# Altium integrated library Linear Technology Comparators.IntLib: 630 symbols (part 19 of 24)
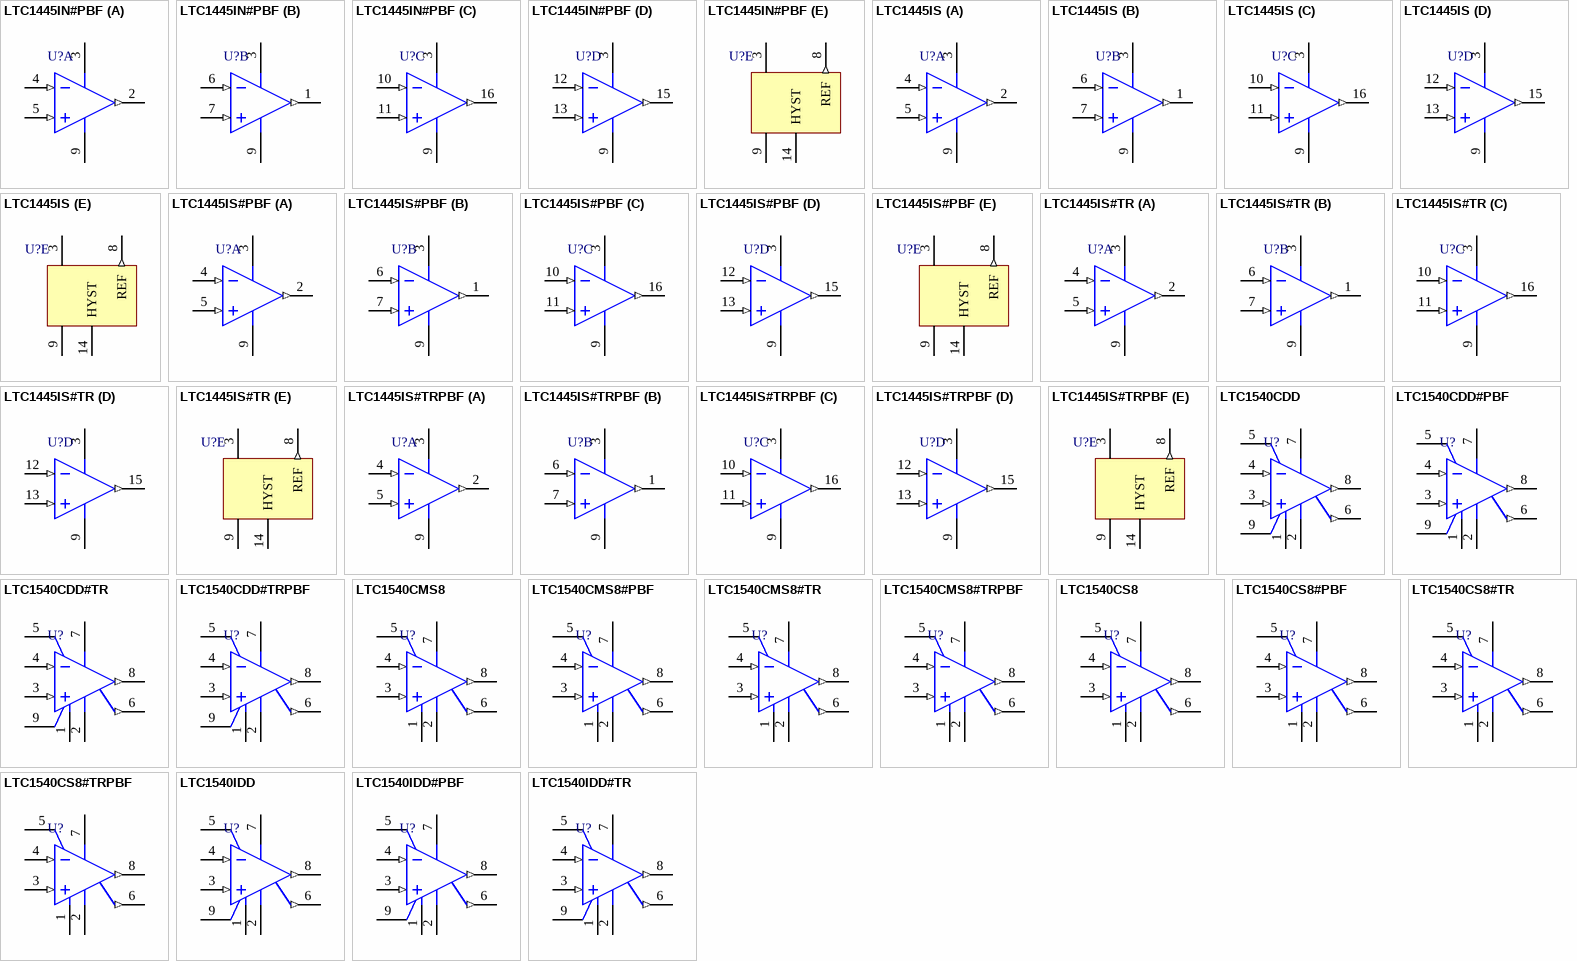
[diagram p42: symbols LTC1445IN#PBF to LTC1540IDD#TR]

## LTC1445IS#TR
designator U?
Ultralow Power Comparator with Reference, 4 Channels, 2 to 11 V, -40 to +85 degC, 16-pin SOP (S16), Tape and Reel; Generic Part Number: LTC1445; Manufacturer: Linear Technology; PartNumber: LTC1445IS#TR; Channels (#): 4; Supply Current (uA) Guaranteed: 8.5; Supply Current (uA) Typical: 5.5; Supply Voltage Range: 2 to 11 V; Vos (mV) Typical: 3; Vs Max (V): 11; Vs Min (V): 2; DatasheetVersion: Rev E; PackageReference: S16; PackageDescription: 16-Pin Plastic Small Outline, Body 9.91 x 3.9 mm, Pitch 1.27 mm; Supplier 1: Digi-Key; Supplier Part Number 1: LTC1445IS#TR-ND; Supplier 2: Newark; Supplier Part Number 2: 56M1279; Features: Reference, Comparator; Prop Delay (us): 4; RoHS: N; Mounting Technology: Surface Mount; ComponentLink1Description: Manufacturer URL; ComponentLink1URL: http://www.linear.com/; ComponentLink2Description: Datasheet; ComponentLink2URL: http://cds.linear.com/docs/en/datasheet/144345fe.pdf; ComponentLink3Description: Package Specification; ComponentLink3URL: http://cds.linear.com/docs/en/packaging/05081610_G_S14.pdf
footprint LT-S16_N (SOIC, 16-Leads, Body 9.9x3.9mm, Pitch 1.27mm, IPC Medium Density)
footprint LT-S16_L (SOIC, 16-Leads, Body 9.9x3.9mm, Pitch 1.27mm, IPC High Density)
footprint LT-S16_M (SOIC, 16-Leads, Body 9.9x3.9mm, Pitch 1.27mm, IPC Low Density)
pins on every part: 3 V+ (power), 9 V- (power)
part A pins: 2 OUTA (out), 4 INA- (in), 5 INA+ (in)
part B pins: 1 OUTB (out), 6 INB- (in), 7 INB+ (in)
part C pins: 10 INC- (in), 11 INC+ (in), 16 OUTC (out)
part D pins: 12 IND- (in), 13 IND+ (in), 15 OUTD (out)
part E pins: 8 REF (out), 14 HYST

## LTC1445IS#TRPBF
designator U?
Ultralow Power Comparator with Reference, 4 Channels, 2 to 11 V, -40 to +85 degC, 16-pin SOP (S16), Tape and Reel; Generic Part Number: LTC1445; Manufacturer: Linear Technology; PartNumber: LTC1445IS#TRPBF; Channels (#): 4; Supply Current (uA) Guaranteed: 8.5; Supply Current (uA) Typical: 5.5; Supply Voltage Range: 2 to 11 V; Vos (mV) Typical: 3; Vs Max (V): 11; Vs Min (V): 2; DatasheetVersion: Rev E; PackageReference: S16; PackageDescription: 16-Pin Plastic Small Outline, Body 9.91 x 3.9 mm, Pitch 1.27 mm; Supplier 1: Digi-Key; Supplier Part Number 1: LTC1445IS#TRPBF-ND; Supplier 2: Newark; Supplier Part Number 2: 78T2496; Features: Reference, Comparator; Prop Delay (us): 4; RoHS: Y; Mounting Technology: Surface Mount; ComponentLink1Description: Manufacturer URL; ComponentLink1URL: http://www.linear.com/; ComponentLink2Description: Datasheet; ComponentLink2URL: http://cds.linear.com/docs/en/datasheet/144345fe.pdf; ComponentLink3Description: Package Specification; ComponentLink3URL: http://cds.linear.com/docs/en/packaging/05081610_G_S14.pdf
footprint LT-S16_N (SOIC, 16-Leads, Body 9.9x3.9mm, Pitch 1.27mm, IPC Medium Density)
footprint LT-S16_L (SOIC, 16-Leads, Body 9.9x3.9mm, Pitch 1.27mm, IPC High Density)
footprint LT-S16_M (SOIC, 16-Leads, Body 9.9x3.9mm, Pitch 1.27mm, IPC Low Density)
pins on every part: 3 V+ (power), 9 V- (power)
part A pins: 2 OUTA (out), 4 INA- (in), 5 INA+ (in)
part B pins: 1 OUTB (out), 6 INB- (in), 7 INB+ (in)
part C pins: 10 INC- (in), 11 INC+ (in), 16 OUTC (out)
part D pins: 12 IND- (in), 13 IND+ (in), 15 OUTD (out)
part E pins: 8 REF (out), 14 HYST

## LTC1540CDD
designator U?
Nanopower Comparator with Reference, 1 Channel, 2 to 11 V, 0 to +70 degC, 8-pin Plastic DFN (DD8); Generic Part Number: LTC1540; Manufacturer: Linear Technology; PartNumber: LTC1540CDD; Channels (#): 1; Prop Delay (us): 50; Supply Current (uA) Guaranteed: 0.68; Supply Current (uA) Typical: 0.3; Supply Voltage Range: 2 to 11 V; Vos (mV) Guaranteed: 12; Vs Max (V): 11; Vs Min (V): 2; DatasheetVersion: Rev A; PackageReference: DD8; PackageDescription: 8-Pin Plastic DFN, Body 3 × 3 mm, Pitch 0.5 mm; Supplier 1: Digi-Key; Supplier Part Number 1: LTC1540CDD-ND; Features: Reference, Comparator; RoHS: N; Vos (mV) Typical: 12; Mounting Technology: Surface Mount; Code_JEDEC: M0-229; ComponentLink1Description: Manufacturer URL; ComponentLink1URL: http://www.linear.com/; ComponentLink2Description: Datasheet; ComponentLink2URL: http://cds.linear.com/docs/en/datasheet/1540fas.pdf; ComponentLink3Description: Package Specification; ComponentLink3URL: http://cds.linear.com/docs/en/packaging/DFN_8_05-08-1698.pdf
footprint LT-DD8_V (SON, 8-Leads, Body 3x3mm, Pitch 0.5mm, Thermal Pad 2.38x1.65mm)
pins: 1 GND (power) "Ground. Connect to V- for single supply operation.", 2 V- (power) "Negative Supply. Potential should be more negative than GND. Connect to ground for single supply operation.", 3 IN+ (in) "Noninverting Comparator Input. Input common mode range from V- to V+ -1.3V. Input current typically 10pA at 25degreesC.", 4 IN- (in) "Inverting Comparator Input. Input common mode range from V- to V+ -1.3V. Input current typically 10pA at 25degreesC.", 5 HYST "Hysteresis Input. Connect to REF if not used. Input voltage range is from VREF to VREF-50mV.", 6 REF (out) "Reference Output. 1.182V with respect to V-. Can source up to 1mA and sink 10uA at 25degreesC. Drive 0.01uF bypass capacitor without oscillation.", 7 V+ (power) "Positive Supply operating voltage is from 2V to 11V.", 8 OUT (out) "Comparator CMOS Output. Swings from GND to V+. Output can source up to 40mA and sink 5mA.", 9 EP (power) "Exposed Pad"

## LTC1540CDD#PBF
designator U?
Nanopower Comparator with Reference, 1 Channel, 2 to 11 V, 0 to +70 degC, 8-pin Plastic DFN (DD8); Generic Part Number: LTC1540; Manufacturer: Linear Technology; PartNumber: LTC1540CDD#PBF; Channels (#): 1; Prop Delay (us): 50; Supply Current (uA) Guaranteed: 0.68; Supply Current (uA) Typical: 0.3; Supply Voltage Range: 2 to 11 V; Vos (mV) Guaranteed: 12; Vs Max (V): 11; Vs Min (V): 2; DatasheetVersion: Rev A; PackageReference: DD8; PackageDescription: 8-Pin Plastic DFN, Body 3 × 3 mm, Pitch 0.5 mm; Supplier 1: Digi-Key; Supplier Part Number 1: LTC1540CDD#PBF-ND; Supplier 2: Farnell; Supplier Part Number 2: 2295500; Supplier 3: Newark; Supplier Part Number 3: 56M1857; Features: Reference, Comparator; RoHS: Y; Vos (mV) Typical: 12; Mounting Technology: Surface Mount; Code_JEDEC: M0-229; ComponentLink1Description: Manufacturer URL; ComponentLink1URL: http://www.linear.com/; ComponentLink2Description: Datasheet; ComponentLink2URL: http://cds.linear.com/docs/en/datasheet/1540fas.pdf; ComponentLink3Description: Package Specification; ComponentLink3URL: http://cds.linear.com/docs/en/packaging/DFN_8_05-08-1698.pdf
footprint LT-DD8_V (SON, 8-Leads, Body 3x3mm, Pitch 0.5mm, Thermal Pad 2.38x1.65mm)
pins: 1 GND (power) "Ground. Connect to V- for single supply operation.", 2 V- (power) "Negative Supply. Potential should be more negative than GND. Connect to ground for single supply operation.", 3 IN+ (in) "Noninverting Comparator Input. Input common mode range from V- to V+ -1.3V. Input current typically 10pA at 25degreesC.", 4 IN- (in) "Inverting Comparator Input. Input common mode range from V- to V+ -1.3V. Input current typically 10pA at 25degreesC.", 5 HYST "Hysteresis Input. Connect to REF if not used. Input voltage range is from VREF to VREF-50mV.", 6 REF (out) "Reference Output. 1.182V with respect to V-. Can source up to 1mA and sink 10uA at 25degreesC. Drive 0.01uF bypass capacitor without oscillation.", 7 V+ (power) "Positive Supply operating voltage is from 2V to 11V.", 8 OUT (out) "Comparator CMOS Output. Swings from GND to V+. Output can source up to 40mA and sink 5mA.", 9 EP (power) "Exposed Pad"

## LTC1540CDD#TR
designator U?
Nanopower Comparator with Reference, 1 Channel, 2 to 11 V, 0 to +70 degC, 8-pin Plastic DFN (DD8), Tape and Reel; Generic Part Number: LTC1540; Manufacturer: Linear Technology; PartNumber: LTC1540CDD#TR; Channels (#): 1; Prop Delay (us): 50; Supply Current (uA) Guaranteed: 0.68; Supply Current (uA) Typical: 0.3; Supply Voltage Range: 2 to 11 V; Vos (mV) Guaranteed: 12; Vs Max (V): 11; Vs Min (V): 2; DatasheetVersion: Rev A; PackageReference: DD8; PackageDescription: 8-Pin Plastic DFN, Body 3 × 3 mm, Pitch 0.5 mm; Supplier 1: Digi-Key; Supplier Part Number 1: LTC1540CDD#TR-ND; Features: Reference, Comparator; RoHS: N; Vos (mV) Typical: 12; Mounting Technology: Surface Mount; Code_JEDEC: M0-229; ComponentLink1Description: Manufacturer URL; ComponentLink1URL: http://www.linear.com/; ComponentLink2Description: Datasheet; ComponentLink2URL: http://cds.linear.com/docs/en/datasheet/1540fas.pdf; ComponentLink3Description: Package Specification; ComponentLink3URL: http://cds.linear.com/docs/en/packaging/DFN_8_05-08-1698.pdf
footprint LT-DD8_V (SON, 8-Leads, Body 3x3mm, Pitch 0.5mm, Thermal Pad 2.38x1.65mm)
pins: 1 GND (power) "Ground. Connect to V- for single supply operation.", 2 V- (power) "Negative Supply. Potential should be more negative than GND. Connect to ground for single supply operation.", 3 IN+ (in) "Noninverting Comparator Input. Input common mode range from V- to V+ -1.3V. Input current typically 10pA at 25degreesC.", 4 IN- (in) "Inverting Comparator Input. Input common mode range from V- to V+ -1.3V. Input current typically 10pA at 25degreesC.", 5 HYST "Hysteresis Input. Connect to REF if not used. Input voltage range is from VREF to VREF-50mV.", 6 REF (out) "Reference Output. 1.182V with respect to V-. Can source up to 1mA and sink 10uA at 25degreesC. Drive 0.01uF bypass capacitor without oscillation.", 7 V+ (power) "Positive Supply operating voltage is from 2V to 11V.", 8 OUT (out) "Comparator CMOS Output. Swings from GND to V+. Output can source up to 40mA and sink 5mA.", 9 EP (power) "Exposed Pad"

## LTC1540CDD#TRPBF
designator U?
Nanopower Comparator with Reference, 1 Channel, 2 to 11 V, 0 to +70 degC, 8-pin Plastic DFN (DD8), Tape and Reel; Generic Part Number: LTC1540; Manufacturer: Linear Technology; PartNumber: LTC1540CDD#TRPBF; Channels (#): 1; Prop Delay (us): 50; Supply Current (uA) Guaranteed: 0.68; Supply Current (uA) Typical: 0.3; Supply Voltage Range: 2 to 11 V; Vos (mV) Guaranteed: 12; Vs Max (V): 11; Vs Min (V): 2; DatasheetVersion: Rev A; PackageReference: DD8; PackageDescription: 8-Pin Plastic DFN, Body 3 × 3 mm, Pitch 0.5 mm; Supplier 1: Digi-Key; Supplier Part Number 1: LTC1540CDD#TRPBF-ND; Features: Reference, Comparator; RoHS: Y; Vos (mV) Typical: 12; Mounting Technology: Surface Mount; Code_JEDEC: M0-229; ComponentLink1Description: Manufacturer URL; ComponentLink1URL: http://www.linear.com/; ComponentLink2Description: Datasheet; ComponentLink2URL: http://cds.linear.com/docs/en/datasheet/1540fas.pdf; ComponentLink3Description: Package Specification; ComponentLink3URL: http://cds.linear.com/docs/en/packaging/DFN_8_05-08-1698.pdf
footprint LT-DD8_V (SON, 8-Leads, Body 3x3mm, Pitch 0.5mm, Thermal Pad 2.38x1.65mm)
pins: 1 GND (power) "Ground. Connect to V- for single supply operation.", 2 V- (power) "Negative Supply. Potential should be more negative than GND. Connect to ground for single supply operation.", 3 IN+ (in) "Noninverting Comparator Input. Input common mode range from V- to V+ -1.3V. Input current typically 10pA at 25degreesC.", 4 IN- (in) "Inverting Comparator Input. Input common mode range from V- to V+ -1.3V. Input current typically 10pA at 25degreesC.", 5 HYST "Hysteresis Input. Connect to REF if not used. Input voltage range is from VREF to VREF-50mV.", 6 REF (out) "Reference Output. 1.182V with respect to V-. Can source up to 1mA and sink 10uA at 25degreesC. Drive 0.01uF bypass capacitor without oscillation.", 7 V+ (power) "Positive Supply operating voltage is from 2V to 11V.", 8 OUT (out) "Comparator CMOS Output. Swings from GND to V+. Output can source up to 40mA and sink 5mA.", 9 EP (power) "Exposed Pad"

## LTC1540CMS8
designator U?
Nanopower Comparator with Reference, 1 Channel, 2 to 11 V, 0 to +70 degC, 8-pin Plastic MSOP (MS8); Generic Part Number: LTC1540; Manufacturer: Linear Technology; PartNumber: LTC1540CMS8; Channels (#): 1; Prop Delay (us): 50; Supply Current (uA) Guaranteed: 0.68; Supply Current (uA) Typical: 0.3; Supply Voltage Range: 2 to 11 V; Vos (mV) Guaranteed: 12; Vs Max (V): 11; Vs Min (V): 2; DatasheetVersion: Rev A; PackageReference: MS8; PackageDescription: 8-Pin Plastic MSOP, Body 3 x 3 mm, Pitch 0.65 mm; Supplier 1: Digi-Key; Supplier Part Number 1: LTC1540CMS8-ND; Supplier 2: Newark; Supplier Part Number 2: 56M1860; Features: Reference, Comparator; RoHS: N; Vos (mV) Typical: 12; Mounting Technology: Surface Mount; ComponentLink1Description: Manufacturer URL; ComponentLink1URL: http://www.linear.com/; ComponentLink2Description: Datasheet; ComponentLink2URL: http://cds.linear.com/docs/en/datasheet/1540fas.pdf; ComponentLink3Description: Package Specification; ComponentLink3URL: http://cds.linear.com/docs/en/packaging/MSOP_8_05-08-1660.pdf
footprint LT-MS8_N (SOP, 8-Leads, Body 3x3mm, Pitch 0.65mm, IPC Medium Density)
footprint LT-MS8_L (SOP, 8-Leads, Body 3x3mm, Pitch 0.65mm, IPC High Density)
footprint LT-MS8_M (SOP, 8-Leads, Body 3x3mm, Pitch 0.65mm, IPC Low Density)
pins: 1 GND (power), 2 V- (power), 3 IN+ (in), 4 IN- (in), 5 HYST, 6 REF (out), 7 V+ (power), 8 OUT (out)

## LTC1540CMS8#PBF
designator U?
Nanopower Comparator with Reference, 1 Channel, 2 to 11 V, 0 to +70 degC, 8-pin Plastic MSOP (MS8); Generic Part Number: LTC1540; Manufacturer: Linear Technology; PartNumber: LTC1540CMS8#PBF; Channels (#): 1; Prop Delay (us): 50; Supply Current (uA) Guaranteed: 0.68; Supply Current (uA) Typical: 0.3; Supply Voltage Range: 2 to 11 V; Vos (mV) Guaranteed: 12; Vs Max (V): 11; Vs Min (V): 2; DatasheetVersion: Rev A; PackageReference: MS8; PackageDescription: 8-Pin Plastic MSOP, Body 3 x 3 mm, Pitch 0.65 mm; Supplier 1: Digi-Key; Supplier Part Number 1: LTC1540CMS8#PBF-ND; Supplier 2: Farnell; Supplier Part Number 2: 1663643; Supplier 3: Newark; Supplier Part Number 3: 56M1861; Features: Reference, Comparator; RoHS: Y; Vos (mV) Typical: 12; Mounting Technology: Surface Mount; ComponentLink1Description: Manufacturer URL; ComponentLink1URL: http://www.linear.com/; ComponentLink2Description: Datasheet; ComponentLink2URL: http://cds.linear.com/docs/en/datasheet/1540fas.pdf; ComponentLink3Description: Package Specification; ComponentLink3URL: http://cds.linear.com/docs/en/packaging/MSOP_8_05-08-1660.pdf
footprint LT-MS8_N (SOP, 8-Leads, Body 3x3mm, Pitch 0.65mm, IPC Medium Density)
footprint LT-MS8_L (SOP, 8-Leads, Body 3x3mm, Pitch 0.65mm, IPC High Density)
footprint LT-MS8_M (SOP, 8-Leads, Body 3x3mm, Pitch 0.65mm, IPC Low Density)
pins: 1 GND (power), 2 V- (power), 3 IN+ (in), 4 IN- (in), 5 HYST, 6 REF (out), 7 V+ (power), 8 OUT (out)

## LTC1540CMS8#TR
designator U?
Nanopower Comparator with Reference, 1 Channel, 2 to 11 V, 0 to +70 degC, 8-pin Plastic MSOP (MS8), Tape and Reel; Generic Part Number: LTC1540; Manufacturer: Linear Technology; PartNumber: LTC1540CMS8#TR; Channels (#): 1; Prop Delay (us): 50; Supply Current (uA) Guaranteed: 0.68; Supply Current (uA) Typical: 0.3; Supply Voltage Range: 2 to 11 V; Vos (mV) Guaranteed: 12; Vs Max (V): 11; Vs Min (V): 2; DatasheetVersion: Rev A; PackageReference: MS8; PackageDescription: 8-Pin Plastic MSOP, Body 3 x 3 mm, Pitch 0.65 mm; Supplier 1: Digi-Key; Supplier Part Number 1: LTC1540CMS8#TR-ND; Supplier 2: Newark; Supplier Part Number 2: 56M1862; Features: Reference, Comparator; RoHS: N; Vos (mV) Typical: 12; Mounting Technology: Surface Mount; ComponentLink1Description: Manufacturer URL; ComponentLink1URL: http://www.linear.com/; ComponentLink2Description: Datasheet; ComponentLink2URL: http://cds.linear.com/docs/en/datasheet/1540fas.pdf; ComponentLink3Description: Package Specification; ComponentLink3URL: http://cds.linear.com/docs/en/packaging/MSOP_8_05-08-1660.pdf
footprint LT-MS8_N (SOP, 8-Leads, Body 3x3mm, Pitch 0.65mm, IPC Medium Density)
footprint LT-MS8_L (SOP, 8-Leads, Body 3x3mm, Pitch 0.65mm, IPC High Density)
footprint LT-MS8_M (SOP, 8-Leads, Body 3x3mm, Pitch 0.65mm, IPC Low Density)
pins: 1 GND (power), 2 V- (power), 3 IN+ (in), 4 IN- (in), 5 HYST, 6 REF (out), 7 V+ (power), 8 OUT (out)

## LTC1540CMS8#TRPBF
designator U?
Nanopower Comparator with Reference, 1 Channel, 2 to 11 V, 0 to +70 degC, 8-pin Plastic MSOP (MS8), Tape and Reel; Generic Part Number: LTC1540; Manufacturer: Linear Technology; PartNumber: LTC1540CMS8#TRPBF; Channels (#): 1; Prop Delay (us): 50; Supply Current (uA) Guaranteed: 0.68; Supply Current (uA) Typical: 0.3; Supply Voltage Range: 2 to 11 V; Vos (mV) Guaranteed: 12; Vs Max (V): 11; Vs Min (V): 2; DatasheetVersion: Rev A; PackageReference: MS8; PackageDescription: 8-Pin Plastic MSOP, Body 3 x 3 mm, Pitch 0.65 mm; Supplier 1: Digi-Key; Supplier Part Number 1: LTC1540CMS8#TRPBF-ND; Supplier 2: Newark; Supplier Part Number 2: 56M1863; Features: Reference, Comparator; RoHS: Y; Vos (mV) Typical: 12; Mounting Technology: Surface Mount; ComponentLink1Description: Manufacturer URL; ComponentLink1URL: http://www.linear.com/; ComponentLink2Description: Datasheet; ComponentLink2URL: http://cds.linear.com/docs/en/datasheet/1540fas.pdf; ComponentLink3Description: Package Specification; ComponentLink3URL: http://cds.linear.com/docs/en/packaging/MSOP_8_05-08-1660.pdf
footprint LT-MS8_N (SOP, 8-Leads, Body 3x3mm, Pitch 0.65mm, IPC Medium Density)
footprint LT-MS8_L (SOP, 8-Leads, Body 3x3mm, Pitch 0.65mm, IPC High Density)
footprint LT-MS8_M (SOP, 8-Leads, Body 3x3mm, Pitch 0.65mm, IPC Low Density)
pins: 1 GND (power), 2 V- (power), 3 IN+ (in), 4 IN- (in), 5 HYST, 6 REF (out), 7 V+ (power), 8 OUT (out)

## LTC1540CS8
designator U?
Nanopower Comparator with Reference, 1 Channel, 2 to 11 V, 0 to +70 degC, 8-pin SOP (S8); Generic Part Number: LTC1540; Manufacturer: Linear Technology; PartNumber: LTC1540CS8; Channels (#): 1; Prop Delay (us): 50; Supply Current (uA) Guaranteed: 0.68; Supply Current (uA) Typical: 0.3; Supply Voltage Range: 2 to 11 V; Vos (mV) Guaranteed: 12; Vs Max (V): 11; Vs Min (V): 2; DatasheetVersion: Rev A; PackageReference: S8; PackageDescription: 8-Pin Plastic Small Outline (Narrow .150 Inch), Body 4.9 x 3.9 mm, Pitch 1.27 mm; Supplier 1: Digi-Key; Supplier Part Number 1: LTC1540CS8-ND; Features: Reference, Comparator; RoHS: N; Vos (mV) Typical: 12; Mounting Technology: Surface Mount; ComponentLink1Description: Manufacturer URL; ComponentLink1URL: http://www.linear.com/; ComponentLink2Description: Datasheet; ComponentLink2URL: http://cds.linear.com/docs/en/datasheet/1540fas.pdf; ComponentLink3Description: Package Specification; ComponentLink3URL: http://cds.linear.com/docs/en/packaging/05081610_G_SO8.pdf
footprint LT-S8_N (SOP, 8-Leads, Body 4.9x3.9mm, Pitch 1.27mm, IPC Medium Density)
footprint LT-S8_L (SOP, 8-Leads, Body 4.9x3.9mm, Pitch 1.27mm, IPC High Density)
footprint LT-S8_M (SOP, 8-Leads, Body 4.9x3.9mm, Pitch 1.27mm, IPC Low Density)
pins: 1 GND (power), 2 V- (power), 3 IN+ (in), 4 IN- (in), 5 HYST, 6 REF (out), 7 V+ (power), 8 OUT (out)

## LTC1540CS8#PBF
designator U?
Nanopower Comparator with Reference, 1 Channel, 2 to 11 V, 0 to +70 degC, 8-pin SOP (S8); Generic Part Number: LTC1540; Manufacturer: Linear Technology; PartNumber: LTC1540CS8#PBF; Channels (#): 1; Prop Delay (us): 50; Supply Current (uA) Guaranteed: 0.68; Supply Current (uA) Typical: 0.3; Supply Voltage Range: 2 to 11 V; Vos (mV) Guaranteed: 12; Vs Max (V): 11; Vs Min (V): 2; DatasheetVersion: Rev A; PackageReference: S8; PackageDescription: 8-Pin Plastic Small Outline (Narrow .150 Inch), Body 4.9 x 3.9 mm, Pitch 1.27 mm; Supplier 1: Digi-Key; Supplier Part Number 1: LTC1540CS8#PBF-ND; Supplier 2: Farnell; Supplier Part Number 2: 1651908; Supplier 3: Newark; Supplier Part Number 3: 56M1865; Features: Reference, Comparator; RoHS: Y; Vos (mV) Typical: 12; Mounting Technology: Surface Mount; ComponentLink1Description: Manufacturer URL; ComponentLink1URL: http://www.linear.com/; ComponentLink2Description: Datasheet; ComponentLink2URL: http://cds.linear.com/docs/en/datasheet/1540fas.pdf; ComponentLink3Description: Package Specification; ComponentLink3URL: http://cds.linear.com/docs/en/packaging/05081610_G_SO8.pdf
footprint LT-S8_N (SOP, 8-Leads, Body 4.9x3.9mm, Pitch 1.27mm, IPC Medium Density)
footprint LT-S8_L (SOP, 8-Leads, Body 4.9x3.9mm, Pitch 1.27mm, IPC High Density)
footprint LT-S8_M (SOP, 8-Leads, Body 4.9x3.9mm, Pitch 1.27mm, IPC Low Density)
pins: 1 GND (power), 2 V- (power), 3 IN+ (in), 4 IN- (in), 5 HYST, 6 REF (out), 7 V+ (power), 8 OUT (out)

## LTC1540CS8#TR
designator U?
Nanopower Comparator with Reference, 1 Channel, 2 to 11 V, 0 to +70 degC, 8-pin SOP (S8), Tape and Reel; Generic Part Number: LTC1540; Manufacturer: Linear Technology; PartNumber: LTC1540CS8#TR; Channels (#): 1; Prop Delay (us): 50; Supply Current (uA) Guaranteed: 0.68; Supply Current (uA) Typical: 0.3; Supply Voltage Range: 2 to 11 V; Vos (mV) Guaranteed: 12; Vs Max (V): 11; Vs Min (V): 2; DatasheetVersion: Rev A; PackageReference: S8; PackageDescription: 8-Pin Plastic Small Outline (Narrow .150 Inch), Body 4.9 x 3.9 mm, Pitch 1.27 mm; Supplier 1: Digi-Key; Supplier Part Number 1: LTC1540CS8#TR-ND; Features: Reference, Comparator; RoHS: N; Vos (mV) Typical: 12; Mounting Technology: Surface Mount; ComponentLink1Description: Manufacturer URL; ComponentLink1URL: http://www.linear.com/; ComponentLink2Description: Datasheet; ComponentLink2URL: http://cds.linear.com/docs/en/datasheet/1540fas.pdf; ComponentLink3Description: Package Specification; ComponentLink3URL: http://cds.linear.com/docs/en/packaging/05081610_G_SO8.pdf
footprint LT-S8_N (SOP, 8-Leads, Body 4.9x3.9mm, Pitch 1.27mm, IPC Medium Density)
footprint LT-S8_L (SOP, 8-Leads, Body 4.9x3.9mm, Pitch 1.27mm, IPC High Density)
footprint LT-S8_M (SOP, 8-Leads, Body 4.9x3.9mm, Pitch 1.27mm, IPC Low Density)
pins: 1 GND (power), 2 V- (power), 3 IN+ (in), 4 IN- (in), 5 HYST, 6 REF (out), 7 V+ (power), 8 OUT (out)

## LTC1540CS8#TRPBF
designator U?
Nanopower Comparator with Reference, 1 Channel, 2 to 11 V, 0 to +70 degC, 8-pin SOP (S8), Tape and Reel; Generic Part Number: LTC1540; Manufacturer: Linear Technology; PartNumber: LTC1540CS8#TRPBF; Channels (#): 1; Prop Delay (us): 50; Supply Current (uA) Guaranteed: 0.68; Supply Current (uA) Typical: 0.3; Supply Voltage Range: 2 to 11 V; Vos (mV) Guaranteed: 12; Vs Max (V): 11; Vs Min (V): 2; DatasheetVersion: Rev A; PackageReference: S8; PackageDescription: 8-Pin Plastic Small Outline (Narrow .150 Inch), Body 4.9 x 3.9 mm, Pitch 1.27 mm; Supplier 1: Digi-Key; Supplier Part Number 1: LTC1540CS8#TRPBF-ND; Supplier 2: Newark; Supplier Part Number 2: 56M1867; Features: Reference, Comparator; RoHS: Y; Vos (mV) Typical: 12; Mounting Technology: Surface Mount; ComponentLink1Description: Manufacturer URL; ComponentLink1URL: http://www.linear.com/; ComponentLink2Description: Datasheet; ComponentLink2URL: http://cds.linear.com/docs/en/datasheet/1540fas.pdf; ComponentLink3Description: Package Specification; ComponentLink3URL: http://cds.linear.com/docs/en/packaging/05081610_G_SO8.pdf
footprint LT-S8_N (SOP, 8-Leads, Body 4.9x3.9mm, Pitch 1.27mm, IPC Medium Density)
footprint LT-S8_L (SOP, 8-Leads, Body 4.9x3.9mm, Pitch 1.27mm, IPC High Density)
footprint LT-S8_M (SOP, 8-Leads, Body 4.9x3.9mm, Pitch 1.27mm, IPC Low Density)
pins: 1 GND (power), 2 V- (power), 3 IN+ (in), 4 IN- (in), 5 HYST, 6 REF (out), 7 V+ (power), 8 OUT (out)

## LTC1540IDD
designator U?
Nanopower Comparator with Reference, 1 Channel, 2 to 11 V, -40 to +85 degC, 8-pin Plastic DFN (DD8); Generic Part Number: LTC1540; Manufacturer: Linear Technology; PartNumber: LTC1540IDD; Channels (#): 1; Prop Delay (us): 50; Supply Current (uA) Guaranteed: 0.68; Supply Current (uA) Typical: 0.3; Supply Voltage Range: 2 to 11 V; Vos (mV) Guaranteed: 12; Vs Max (V): 11; Vs Min (V): 2; DatasheetVersion: Rev A; PackageReference: DD8; PackageDescription: 8-Pin Plastic DFN, Body 3 × 3 mm, Pitch 0.5 mm; Supplier 1: Digi-Key; Supplier Part Number 1: LTC1540IDD-ND; Supplier 2: Newark; Supplier Part Number 2: 56M1868; Features: Reference, Comparator; RoHS: N; Vos (mV) Typical: 12; Mounting Technology: Surface Mount; Code_JEDEC: M0-229; ComponentLink1Description: Manufacturer URL; ComponentLink1URL: http://www.linear.com/; ComponentLink2Description: Datasheet; ComponentLink2URL: http://cds.linear.com/docs/en/datasheet/1540fas.pdf; ComponentLink3Description: Package Specification; ComponentLink3URL: http://cds.linear.com/docs/en/packaging/DFN_8_05-08-1698.pdf
footprint LT-DD8_V (SON, 8-Leads, Body 3x3mm, Pitch 0.5mm, Thermal Pad 2.38x1.65mm)
pins: 1 GND (power) "Ground. Connect to V- for single supply operation.", 2 V- (power) "Negative Supply. Potential should be more negative than GND. Connect to ground for single supply operation.", 3 IN+ (in) "Noninverting Comparator Input. Input common mode range from V- to V+ -1.3V. Input current typically 10pA at 25degreesC.", 4 IN- (in) "Inverting Comparator Input. Input common mode range from V- to V+ -1.3V. Input current typically 10pA at 25degreesC.", 5 HYST "Hysteresis Input. Connect to REF if not used. Input voltage range is from VREF to VREF-50mV.", 6 REF (out) "Reference Output. 1.182V with respect to V-. Can source up to 1mA and sink 10uA at 25degreesC. Drive 0.01uF bypass capacitor without oscillation.", 7 V+ (power) "Positive Supply operating voltage is from 2V to 11V.", 8 OUT (out) "Comparator CMOS Output. Swings from GND to V+. Output can source up to 40mA and sink 5mA.", 9 EP (power) "Exposed Pad"

## LTC1540IDD#PBF
designator U?
Nanopower Comparator with Reference, 1 Channel, 2 to 11 V, -40 to +85 degC, 8-pin Plastic DFN (DD8); Generic Part Number: LTC1540; Manufacturer: Linear Technology; PartNumber: LTC1540IDD#PBF; Channels (#): 1; Prop Delay (us): 50; Supply Current (uA) Guaranteed: 0.68; Supply Current (uA) Typical: 0.3; Supply Voltage Range: 2 to 11 V; Vos (mV) Guaranteed: 12; Vs Max (V): 11; Vs Min (V): 2; DatasheetVersion: Rev A; PackageReference: DD8; PackageDescription: 8-Pin Plastic DFN, Body 3 × 3 mm, Pitch 0.5 mm; Supplier 1: Digi-Key; Supplier Part Number 1: LTC1540IDD#PBF-ND; Supplier 2: Farnell; Supplier Part Number 2: 2295501; Supplier 3: Newark; Supplier Part Number 3: 56M1869; Features: Reference, Comparator; RoHS: Y; Vos (mV) Typical: 12; Mounting Technology: Surface Mount; Code_JEDEC: M0-229; ComponentLink1Description: Manufacturer URL; ComponentLink1URL: http://www.linear.com/; ComponentLink2Description: Datasheet; ComponentLink2URL: http://cds.linear.com/docs/en/datasheet/1540fas.pdf; ComponentLink3Description: Package Specification; ComponentLink3URL: http://cds.linear.com/docs/en/packaging/DFN_8_05-08-1698.pdf
footprint LT-DD8_V (SON, 8-Leads, Body 3x3mm, Pitch 0.5mm, Thermal Pad 2.38x1.65mm)
pins: 1 GND (power) "Ground. Connect to V- for single supply operation.", 2 V- (power) "Negative Supply. Potential should be more negative than GND. Connect to ground for single supply operation.", 3 IN+ (in) "Noninverting Comparator Input. Input common mode range from V- to V+ -1.3V. Input current typically 10pA at 25degreesC.", 4 IN- (in) "Inverting Comparator Input. Input common mode range from V- to V+ -1.3V. Input current typically 10pA at 25degreesC.", 5 HYST "Hysteresis Input. Connect to REF if not used. Input voltage range is from VREF to VREF-50mV.", 6 REF (out) "Reference Output. 1.182V with respect to V-. Can source up to 1mA and sink 10uA at 25degreesC. Drive 0.01uF bypass capacitor without oscillation.", 7 V+ (power) "Positive Supply operating voltage is from 2V to 11V.", 8 OUT (out) "Comparator CMOS Output. Swings from GND to V+. Output can source up to 40mA and sink 5mA.", 9 EP (power) "Exposed Pad"

## LTC1540IDD#TR
designator U?
Nanopower Comparator with Reference, 1 Channel, 2 to 11 V, -40 to +85 degC, 8-pin Plastic DFN (DD8), Tape and Reel; Generic Part Number: LTC1540; Manufacturer: Linear Technology; PartNumber: LTC1540IDD#TR; Channels (#): 1; Prop Delay (us): 50; Supply Current (uA) Guaranteed: 0.68; Supply Current (uA) Typical: 0.3; Supply Voltage Range: 2 to 11 V; Vos (mV) Guaranteed: 12; Vs Max (V): 11; Vs Min (V): 2; DatasheetVersion: Rev A; PackageReference: DD8; PackageDescription: 8-Pin Plastic DFN, Body 3 × 3 mm, Pitch 0.5 mm; Supplier 1: Digi-Key; Supplier Part Number 1: LTC1540IDD#TR-ND; Features: Reference, Comparator; RoHS: N; Vos (mV) Typical: 12; Mounting Technology: Surface Mount; Code_JEDEC: M0-229; ComponentLink1Description: Manufacturer URL; ComponentLink1URL: http://www.linear.com/; ComponentLink2Description: Datasheet; ComponentLink2URL: http://cds.linear.com/docs/en/datasheet/1540fas.pdf; ComponentLink3Description: Package Specification; ComponentLink3URL: http://cds.linear.com/docs/en/packaging/DFN_8_05-08-1698.pdf
footprint LT-DD8_V (SON, 8-Leads, Body 3x3mm, Pitch 0.5mm, Thermal Pad 2.38x1.65mm)
pins: 1 GND (power) "Ground. Connect to V- for single supply operation.", 2 V- (power) "Negative Supply. Potential should be more negative than GND. Connect to ground for single supply operation.", 3 IN+ (in) "Noninverting Comparator Input. Input common mode range from V- to V+ -1.3V. Input current typically 10pA at 25degreesC.", 4 IN- (in) "Inverting Comparator Input. Input common mode range from V- to V+ -1.3V. Input current typically 10pA at 25degreesC.", 5 HYST "Hysteresis Input. Connect to REF if not used. Input voltage range is from VREF to VREF-50mV.", 6 REF (out) "Reference Output. 1.182V with respect to V-. Can source up to 1mA and sink 10uA at 25degreesC. Drive 0.01uF bypass capacitor without oscillation.", 7 V+ (power) "Positive Supply operating voltage is from 2V to 11V.", 8 OUT (out) "Comparator CMOS Output. Swings from GND to V+. Output can source up to 40mA and sink 5mA.", 9 EP (power) "Exposed Pad"

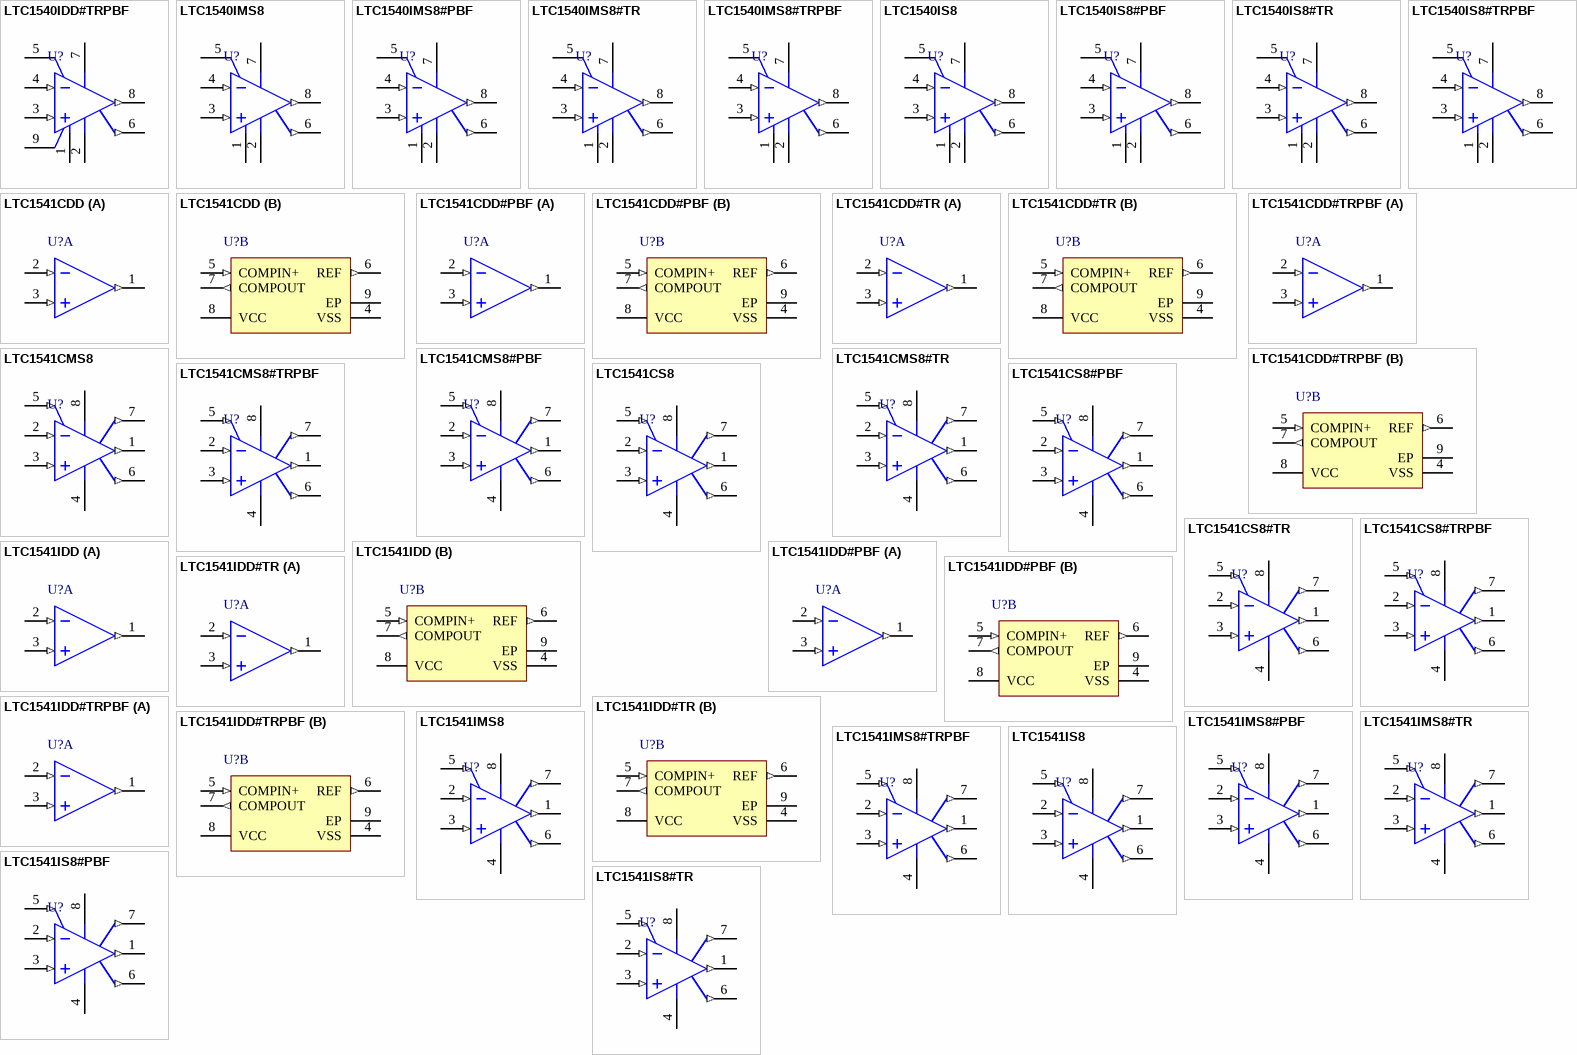
[diagram p20: symbols LTC1540IDD#TRPBF to LTC1541IS8#TR]

## LTC1540IDD#TRPBF
designator U?
Nanopower Comparator with Reference, 1 Channel, 2 to 11 V, -40 to +85 degC, 8-pin Plastic DFN (DD8), Tape and Reel; Generic Part Number: LTC1540; Manufacturer: Linear Technology; PartNumber: LTC1540IDD#TRPBF; Channels (#): 1; Prop Delay (us): 50; Supply Current (uA) Guaranteed: 0.68; Supply Current (uA) Typical: 0.3; Supply Voltage Range: 2 to 11 V; Vos (mV) Guaranteed: 12; Vs Max (V): 11; Vs Min (V): 2; DatasheetVersion: Rev A; PackageReference: DD8; PackageDescription: 8-Pin Plastic DFN, Body 3 × 3 mm, Pitch 0.5 mm; Supplier 1: Digi-Key; Supplier Part Number 1: LTC1540IDD#TRPBF-ND; Supplier 2: Newark; Supplier Part Number 2: 56M1871; Features: Reference, Comparator; RoHS: Y; Vos (mV) Typical: 12; Mounting Technology: Surface Mount; Code_JEDEC: M0-229; ComponentLink1Description: Manufacturer URL; ComponentLink1URL: http://www.linear.com/; ComponentLink2Description: Datasheet; ComponentLink2URL: http://cds.linear.com/docs/en/datasheet/1540fas.pdf; ComponentLink3Description: Package Specification; ComponentLink3URL: http://cds.linear.com/docs/en/packaging/DFN_8_05-08-1698.pdf
footprint LT-DD8_V (SON, 8-Leads, Body 3x3mm, Pitch 0.5mm, Thermal Pad 2.38x1.65mm)
pins: 1 GND (power) "Ground. Connect to V- for single supply operation.", 2 V- (power) "Negative Supply. Potential should be more negative than GND. Connect to ground for single supply operation.", 3 IN+ (in) "Noninverting Comparator Input. Input common mode range from V- to V+ -1.3V. Input current typically 10pA at 25degreesC.", 4 IN- (in) "Inverting Comparator Input. Input common mode range from V- to V+ -1.3V. Input current typically 10pA at 25degreesC.", 5 HYST "Hysteresis Input. Connect to REF if not used. Input voltage range is from VREF to VREF-50mV.", 6 REF (out) "Reference Output. 1.182V with respect to V-. Can source up to 1mA and sink 10uA at 25degreesC. Drive 0.01uF bypass capacitor without oscillation.", 7 V+ (power) "Positive Supply operating voltage is from 2V to 11V.", 8 OUT (out) "Comparator CMOS Output. Swings from GND to V+. Output can source up to 40mA and sink 5mA.", 9 EP (power) "Exposed Pad"

## LTC1540IMS8
designator U?
Nanopower Comparator with Reference, 1 Channel, 2 to 11 V, -40 to +85 degC, 8-pin Plastic MSOP (MS8); Generic Part Number: LTC1540; Manufacturer: Linear Technology; PartNumber: LTC1540IMS8; Channels (#): 1; Prop Delay (us): 50; Supply Current (uA) Guaranteed: 0.68; Supply Current (uA) Typical: 0.3; Supply Voltage Range: 2 to 11 V; Vos (mV) Guaranteed: 12; Vs Max (V): 11; Vs Min (V): 2; DatasheetVersion: Rev A; PackageReference: MS8; PackageDescription: 8-Pin Plastic MSOP, Body 3 x 3 mm, Pitch 0.65 mm; Supplier 1: Digi-Key; Supplier Part Number 1: LTC1540IMS8-ND; Supplier 2: Newark; Supplier Part Number 2: 56M1872; Features: Reference, Comparator; RoHS: N; Vos (mV) Typical: 12; Mounting Technology: Surface Mount; ComponentLink1Description: Manufacturer URL; ComponentLink1URL: http://www.linear.com/; ComponentLink2Description: Datasheet; ComponentLink2URL: http://cds.linear.com/docs/en/datasheet/1540fas.pdf; ComponentLink3Description: Package Specification; ComponentLink3URL: http://cds.linear.com/docs/en/packaging/MSOP_8_05-08-1660.pdf
footprint LT-MS8_N (SOP, 8-Leads, Body 3x3mm, Pitch 0.65mm, IPC Medium Density)
footprint LT-MS8_L (SOP, 8-Leads, Body 3x3mm, Pitch 0.65mm, IPC High Density)
footprint LT-MS8_M (SOP, 8-Leads, Body 3x3mm, Pitch 0.65mm, IPC Low Density)
pins: 1 GND (power), 2 V- (power), 3 IN+ (in), 4 IN- (in), 5 HYST, 6 REF (out), 7 V+ (power), 8 OUT (out)

## LTC1540IMS8#PBF
designator U?
Nanopower Comparator with Reference, 1 Channel, 2 to 11 V, -40 to +85 degC, 8-pin Plastic MSOP (MS8); Generic Part Number: LTC1540; Manufacturer: Linear Technology; PartNumber: LTC1540IMS8#PBF; Channels (#): 1; Prop Delay (us): 50; Supply Current (uA) Guaranteed: 0.68; Supply Current (uA) Typical: 0.3; Supply Voltage Range: 2 to 11 V; Vos (mV) Guaranteed: 12; Vs Max (V): 11; Vs Min (V): 2; DatasheetVersion: Rev A; PackageReference: MS8; PackageDescription: 8-Pin Plastic MSOP, Body 3 x 3 mm, Pitch 0.65 mm; Supplier 1: Digi-Key; Supplier Part Number 1: LTC1540IMS8#PBF-ND; Supplier 2: Farnell; Supplier Part Number 2: 2295502; Supplier 3: Newark; Supplier Part Number 3: 56M1873; Features: Reference, Comparator; RoHS: Y; Vos (mV) Typical: 12; Mounting Technology: Surface Mount; ComponentLink1Description: Manufacturer URL; ComponentLink1URL: http://www.linear.com/; ComponentLink2Description: Datasheet; ComponentLink2URL: http://cds.linear.com/docs/en/datasheet/1540fas.pdf; ComponentLink3Description: Package Specification; ComponentLink3URL: http://cds.linear.com/docs/en/packaging/MSOP_8_05-08-1660.pdf
footprint LT-MS8_N (SOP, 8-Leads, Body 3x3mm, Pitch 0.65mm, IPC Medium Density)
footprint LT-MS8_L (SOP, 8-Leads, Body 3x3mm, Pitch 0.65mm, IPC High Density)
footprint LT-MS8_M (SOP, 8-Leads, Body 3x3mm, Pitch 0.65mm, IPC Low Density)
pins: 1 GND (power), 2 V- (power), 3 IN+ (in), 4 IN- (in), 5 HYST, 6 REF (out), 7 V+ (power), 8 OUT (out)

## LTC1540IMS8#TR
designator U?
Nanopower Comparator with Reference, 1 Channel, 2 to 11 V, -40 to +85 degC, 8-pin Plastic MSOP (MS8), Tape and Reel; Generic Part Number: LTC1540; Manufacturer: Linear Technology; PartNumber: LTC1540IMS8#TR; Channels (#): 1; Prop Delay (us): 50; Supply Current (uA) Guaranteed: 0.68; Supply Current (uA) Typical: 0.3; Supply Voltage Range: 2 to 11 V; Vos (mV) Guaranteed: 12; Vs Max (V): 11; Vs Min (V): 2; DatasheetVersion: Rev A; PackageReference: MS8; PackageDescription: 8-Pin Plastic MSOP, Body 3 x 3 mm, Pitch 0.65 mm; Supplier 1: Digi-Key; Supplier Part Number 1: LTC1540IMS8#TR-ND; Features: Reference, Comparator; RoHS: N; Vos (mV) Typical: 12; Mounting Technology: Surface Mount; ComponentLink1Description: Manufacturer URL; ComponentLink1URL: http://www.linear.com/; ComponentLink2Description: Datasheet; ComponentLink2URL: http://cds.linear.com/docs/en/datasheet/1540fas.pdf; ComponentLink3Description: Package Specification; ComponentLink3URL: http://cds.linear.com/docs/en/packaging/MSOP_8_05-08-1660.pdf
footprint LT-MS8_N (SOP, 8-Leads, Body 3x3mm, Pitch 0.65mm, IPC Medium Density)
footprint LT-MS8_L (SOP, 8-Leads, Body 3x3mm, Pitch 0.65mm, IPC High Density)
footprint LT-MS8_M (SOP, 8-Leads, Body 3x3mm, Pitch 0.65mm, IPC Low Density)
pins: 1 GND (power), 2 V- (power), 3 IN+ (in), 4 IN- (in), 5 HYST, 6 REF (out), 7 V+ (power), 8 OUT (out)

## LTC1540IMS8#TRPBF
designator U?
Nanopower Comparator with Reference, 1 Channel, 2 to 11 V, -40 to +85 degC, 8-pin Plastic MSOP (MS8), Tape and Reel; Generic Part Number: LTC1540; Manufacturer: Linear Technology; PartNumber: LTC1540IMS8#TRPBF; Channels (#): 1; Prop Delay (us): 50; Supply Current (uA) Guaranteed: 0.68; Supply Current (uA) Typical: 0.3; Supply Voltage Range: 2 to 11 V; Vos (mV) Guaranteed: 12; Vs Max (V): 11; Vs Min (V): 2; DatasheetVersion: Rev A; PackageReference: MS8; PackageDescription: 8-Pin Plastic MSOP, Body 3 x 3 mm, Pitch 0.65 mm; Supplier 1: Digi-Key; Supplier Part Number 1: LTC1540IMS8#TRPBF-ND; Supplier 2: Newark; Supplier Part Number 2: 56M1875; Features: Reference, Comparator; RoHS: Y; Vos (mV) Typical: 12; Mounting Technology: Surface Mount; ComponentLink1Description: Manufacturer URL; ComponentLink1URL: http://www.linear.com/; ComponentLink2Description: Datasheet; ComponentLink2URL: http://cds.linear.com/docs/en/datasheet/1540fas.pdf; ComponentLink3Description: Package Specification; ComponentLink3URL: http://cds.linear.com/docs/en/packaging/MSOP_8_05-08-1660.pdf
footprint LT-MS8_N (SOP, 8-Leads, Body 3x3mm, Pitch 0.65mm, IPC Medium Density)
footprint LT-MS8_L (SOP, 8-Leads, Body 3x3mm, Pitch 0.65mm, IPC High Density)
footprint LT-MS8_M (SOP, 8-Leads, Body 3x3mm, Pitch 0.65mm, IPC Low Density)
pins: 1 GND (power), 2 V- (power), 3 IN+ (in), 4 IN- (in), 5 HYST, 6 REF (out), 7 V+ (power), 8 OUT (out)

## LTC1540IS8
designator U?
Nanopower Comparator with Reference, 1 Channel, 2 to 11 V, -40 to +85 degC, 8-pin SOP (S8); Generic Part Number: LTC1540; Manufacturer: Linear Technology; PartNumber: LTC1540IS8; Channels (#): 1; Prop Delay (us): 50; Supply Current (uA) Guaranteed: 0.68; Supply Current (uA) Typical: 0.3; Supply Voltage Range: 2 to 11 V; Vos (mV) Guaranteed: 12; Vs Max (V): 11; Vs Min (V): 2; DatasheetVersion: Rev A; PackageReference: S8; PackageDescription: 8-Pin Plastic Small Outline (Narrow .150 Inch), Body 4.9 x 3.9 mm, Pitch 1.27 mm; Supplier 1: Digi-Key; Supplier Part Number 1: LTC1540IS8-ND; Supplier 2: Newark; Supplier Part Number 2: 56M1876; Features: Reference, Comparator; RoHS: N; Vos (mV) Typical: 12; Mounting Technology: Surface Mount; ComponentLink1Description: Manufacturer URL; ComponentLink1URL: http://www.linear.com/; ComponentLink2Description: Datasheet; ComponentLink2URL: http://cds.linear.com/docs/en/datasheet/1540fas.pdf; ComponentLink3Description: Package Specification; ComponentLink3URL: http://cds.linear.com/docs/en/packaging/05081610_G_SO8.pdf
footprint LT-S8_N (SOP, 8-Leads, Body 4.9x3.9mm, Pitch 1.27mm, IPC Medium Density)
footprint LT-S8_L (SOP, 8-Leads, Body 4.9x3.9mm, Pitch 1.27mm, IPC High Density)
footprint LT-S8_M (SOP, 8-Leads, Body 4.9x3.9mm, Pitch 1.27mm, IPC Low Density)
pins: 1 GND (power), 2 V- (power), 3 IN+ (in), 4 IN- (in), 5 HYST, 6 REF (out), 7 V+ (power), 8 OUT (out)

## LTC1540IS8#PBF
designator U?
Nanopower Comparator with Reference, 1 Channel, 2 to 11 V, -40 to +85 degC, 8-pin SOP (S8); Generic Part Number: LTC1540; Manufacturer: Linear Technology; PartNumber: LTC1540IS8#PBF; Channels (#): 1; Prop Delay (us): 50; Supply Current (uA) Guaranteed: 0.68; Supply Current (uA) Typical: 0.3; Supply Voltage Range: 2 to 11 V; Vos (mV) Guaranteed: 12; Vs Max (V): 11; Vs Min (V): 2; DatasheetVersion: Rev A; PackageReference: S8; PackageDescription: 8-Pin Plastic Small Outline (Narrow .150 Inch), Body 4.9 x 3.9 mm, Pitch 1.27 mm; Supplier 1: Digi-Key; Supplier Part Number 1: LTC1540IS8#PBF-ND; Supplier 2: Farnell; Supplier Part Number 2: 1663644; Supplier 3: Newark; Supplier Part Number 3: 56M1877; Features: Reference, Comparator; RoHS: Y; Vos (mV) Typical: 12; Mounting Technology: Surface Mount; ComponentLink1Description: Manufacturer URL; ComponentLink1URL: http://www.linear.com/; ComponentLink2Description: Datasheet; ComponentLink2URL: http://cds.linear.com/docs/en/datasheet/1540fas.pdf; ComponentLink3Description: Package Specification; ComponentLink3URL: http://cds.linear.com/docs/en/packaging/05081610_G_SO8.pdf
footprint LT-S8_N (SOP, 8-Leads, Body 4.9x3.9mm, Pitch 1.27mm, IPC Medium Density)
footprint LT-S8_L (SOP, 8-Leads, Body 4.9x3.9mm, Pitch 1.27mm, IPC High Density)
footprint LT-S8_M (SOP, 8-Leads, Body 4.9x3.9mm, Pitch 1.27mm, IPC Low Density)
pins: 1 GND (power), 2 V- (power), 3 IN+ (in), 4 IN- (in), 5 HYST, 6 REF (out), 7 V+ (power), 8 OUT (out)

## LTC1540IS8#TR
designator U?
Nanopower Comparator with Reference, 1 Channel, 2 to 11 V, -40 to +85 degC, 8-pin SOP (S8), Tape and Reel; Generic Part Number: LTC1540; Manufacturer: Linear Technology; PartNumber: LTC1540IS8#TR; Channels (#): 1; Prop Delay (us): 50; Supply Current (uA) Guaranteed: 0.68; Supply Current (uA) Typical: 0.3; Supply Voltage Range: 2 to 11 V; Vos (mV) Guaranteed: 12; Vs Max (V): 11; Vs Min (V): 2; DatasheetVersion: Rev A; PackageReference: S8; PackageDescription: 8-Pin Plastic Small Outline (Narrow .150 Inch), Body 4.9 x 3.9 mm, Pitch 1.27 mm; Supplier 1: Digi-Key; Supplier Part Number 1: LTC1540IS8#TR-ND; Features: Reference, Comparator; RoHS: N; Vos (mV) Typical: 12; Mounting Technology: Surface Mount; ComponentLink1Description: Manufacturer URL; ComponentLink1URL: http://www.linear.com/; ComponentLink2Description: Datasheet; ComponentLink2URL: http://cds.linear.com/docs/en/datasheet/1540fas.pdf; ComponentLink3Description: Package Specification; ComponentLink3URL: http://cds.linear.com/docs/en/packaging/05081610_G_SO8.pdf
footprint LT-S8_N (SOP, 8-Leads, Body 4.9x3.9mm, Pitch 1.27mm, IPC Medium Density)
footprint LT-S8_L (SOP, 8-Leads, Body 4.9x3.9mm, Pitch 1.27mm, IPC High Density)
footprint LT-S8_M (SOP, 8-Leads, Body 4.9x3.9mm, Pitch 1.27mm, IPC Low Density)
pins: 1 GND (power), 2 V- (power), 3 IN+ (in), 4 IN- (in), 5 HYST, 6 REF (out), 7 V+ (power), 8 OUT (out)

## LTC1540IS8#TRPBF
designator U?
Nanopower Comparator with Reference, 1 Channel, 2 to 11 V, -40 to +85 degC, 8-pin SOP (S8), Tape and Reel; Generic Part Number: LTC1540; Manufacturer: Linear Technology; PartNumber: LTC1540IS8#TRPBF; Channels (#): 1; Prop Delay (us): 50; Supply Current (uA) Guaranteed: 0.68; Supply Current (uA) Typical: 0.3; Supply Voltage Range: 2 to 11 V; Vos (mV) Guaranteed: 12; Vs Max (V): 11; Vs Min (V): 2; DatasheetVersion: Rev A; PackageReference: S8; PackageDescription: 8-Pin Plastic Small Outline (Narrow .150 Inch), Body 4.9 x 3.9 mm, Pitch 1.27 mm; Supplier 1: Digi-Key; Supplier Part Number 1: LTC1540IS8#TRPBF-ND; Supplier 2: Newark; Supplier Part Number 2: 56M1879; Features: Reference, Comparator; RoHS: Y; Vos (mV) Typical: 12; Mounting Technology: Surface Mount; ComponentLink1Description: Manufacturer URL; ComponentLink1URL: http://www.linear.com/; ComponentLink2Description: Datasheet; ComponentLink2URL: http://cds.linear.com/docs/en/datasheet/1540fas.pdf; ComponentLink3Description: Package Specification; ComponentLink3URL: http://cds.linear.com/docs/en/packaging/05081610_G_SO8.pdf
footprint LT-S8_N (SOP, 8-Leads, Body 4.9x3.9mm, Pitch 1.27mm, IPC Medium Density)
footprint LT-S8_L (SOP, 8-Leads, Body 4.9x3.9mm, Pitch 1.27mm, IPC High Density)
footprint LT-S8_M (SOP, 8-Leads, Body 4.9x3.9mm, Pitch 1.27mm, IPC Low Density)
pins: 1 GND (power), 2 V- (power), 3 IN+ (in), 4 IN- (in), 5 HYST, 6 REF (out), 7 V+ (power), 8 OUT (out)

## LTC1541CDD
designator U?
Micropower Op Amp, Comparator and Reference, 1 Channel, 2.5 to 12.6 V, 0 to +70 degC, 8-pin Plastic DFN (DD8); Generic Part Number: LTC1541; Manufacturer: Linear Technology; PartNumber: LTC1541CDD; Channels (#): 1; Prop Delay (us): 8; Supply Current (uA) Guaranteed: 10; Supply Current (uA) Typical: 5; Vs Max (V): 12.6; Vs Min (V): 2.5; DatasheetVersion: Rev D; PackageReference: DD8; PackageDescription: 8-Pin Plastic DFN, Body 3 × 3 mm, Pitch 0.5 mm; Supplier 1: Digi-Key; Supplier Part Number 1: LTC1541CDD-ND; Features: Reference, Op Amp, Comparator; RoHS: N; Supply Voltage Range: 2.5 to 12.6 V; Vos (mV) Guaranteed: 1; Vos (mV) Typical: 1; Mounting Technology: Surface Mount; Code_JEDEC: M0-229; ComponentLink1Description: Manufacturer URL; ComponentLink1URL: http://www.linear.com/; ComponentLink2Description: Datasheet; ComponentLink2URL: http://cds.linear.com/docs/en/datasheet/15412fd.pdf; ComponentLink3Description: Package Specification; ComponentLink3URL: http://cds.linear.com/docs/en/packaging/DFN_8_05-08-1698.pdf
footprint LT-DD8_V (SON, 8-Leads, Body 3x3mm, Pitch 0.5mm, Thermal Pad 2.38x1.65mm)
part A pins: 1 AMPOUT (out) "Op Amp Output. The output can swing from rail-to-rail while driving a capacitive load of up to 1000pF. The output can source and sink 0.7mA (min).", 2 AMPIN- (in) "Inverting Input of Op Amp. The input common mode ranges from VSS to (VCC - 1.3V). The input current is typically 10pA at 25degreesC.", 3 AMPIN+ (in) "Noninverting Input of Op Amp. The input common mode ranges from VSS to (VCC - 1.3V). The input current is typically 10pA at 25degreesC."
part B pins: 4 VSS (power) "Negative Supply or Ground Connection.", 5 COMPIN+ (in) "Noninverting Input of Comparator. The input common mode ranges from VSS to (VCC - 1.3V). The input current is typically 10pA at 25degreesC.", 6 REF (out) "Reference Output. VREF = 1.2V +/-1% over industrial temperature range, and is also connected to inverting comparator input internally. This device can source up to 2mA and sink up to 20uA. The output can drive a bypass (See Datasheet)", 7 COMPOUT (out) "Comparator Output.The output can source 20mA and sink 5mA.", 8 VCC (power) "Positive Supply, 2.5V =< VCC =< 12.6V. The supply bypass capacitors are not required if the supply impedance is low. For single supply applications, it is a good general practice to bypass VCC with a 0.1uF capacitor to (See Datasheet)", 9 EP "Exposed Pad."

## LTC1541CDD#PBF
designator U?
Micropower Op Amp, Comparator and Reference, 1 Channel, 2.5 to 12.6 V, 0 to +70 degC, 8-pin Plastic DFN (DD8); Generic Part Number: LTC1541; Manufacturer: Linear Technology; PartNumber: LTC1541CDD#PBF; Channels (#): 1; Prop Delay (us): 8; Supply Current (uA) Guaranteed: 10; Supply Current (uA) Typical: 5; Vs Max (V): 12.6; Vs Min (V): 2.5; DatasheetVersion: Rev D; PackageReference: DD8; PackageDescription: 8-Pin Plastic DFN, Body 3 × 3 mm, Pitch 0.5 mm; Supplier 1: Digi-Key; Supplier Part Number 1: LTC1541CDD#PBF-ND; Supplier 2: Newark; Supplier Part Number 2: 56M1881; Features: Reference, Op Amp, Comparator; RoHS: Y; Supply Voltage Range: 2.5 to 12.6 V; Vos (mV) Guaranteed: 1; Vos (mV) Typical: 1; Mounting Technology: Surface Mount; Code_JEDEC: M0-229; ComponentLink1Description: Manufacturer URL; ComponentLink1URL: http://www.linear.com/; ComponentLink2Description: Datasheet; ComponentLink2URL: http://cds.linear.com/docs/en/datasheet/15412fd.pdf; ComponentLink3Description: Package Specification; ComponentLink3URL: http://cds.linear.com/docs/en/packaging/DFN_8_05-08-1698.pdf
footprint LT-DD8_V (SON, 8-Leads, Body 3x3mm, Pitch 0.5mm, Thermal Pad 2.38x1.65mm)
part A pins: 1 AMPOUT (out) "Op Amp Output. The output can swing from rail-to-rail while driving a capacitive load of up to 1000pF. The output can source and sink 0.7mA (min).", 2 AMPIN- (in) "Inverting Input of Op Amp. The input common mode ranges from VSS to (VCC - 1.3V). The input current is typically 10pA at 25degreesC.", 3 AMPIN+ (in) "Noninverting Input of Op Amp. The input common mode ranges from VSS to (VCC - 1.3V). The input current is typically 10pA at 25degreesC."
part B pins: 4 VSS (power) "Negative Supply or Ground Connection.", 5 COMPIN+ (in) "Noninverting Input of Comparator. The input common mode ranges from VSS to (VCC - 1.3V). The input current is typically 10pA at 25degreesC.", 6 REF (out) "Reference Output. VREF = 1.2V +/-1% over industrial temperature range, and is also connected to inverting comparator input internally. This device can source up to 2mA and sink up to 20uA. The output can drive a bypass (See Datasheet)", 7 COMPOUT (out) "Comparator Output.The output can source 20mA and sink 5mA.", 8 VCC (power) "Positive Supply, 2.5V =< VCC =< 12.6V. The supply bypass capacitors are not required if the supply impedance is low. For single supply applications, it is a good general practice to bypass VCC with a 0.1uF capacitor to (See Datasheet)", 9 EP "Exposed Pad."